# Altium integrated library LilyPad Simple v2.IntLib: 13 symbols
Pins are listed as number, name and electrical type; pins without a type are passive.

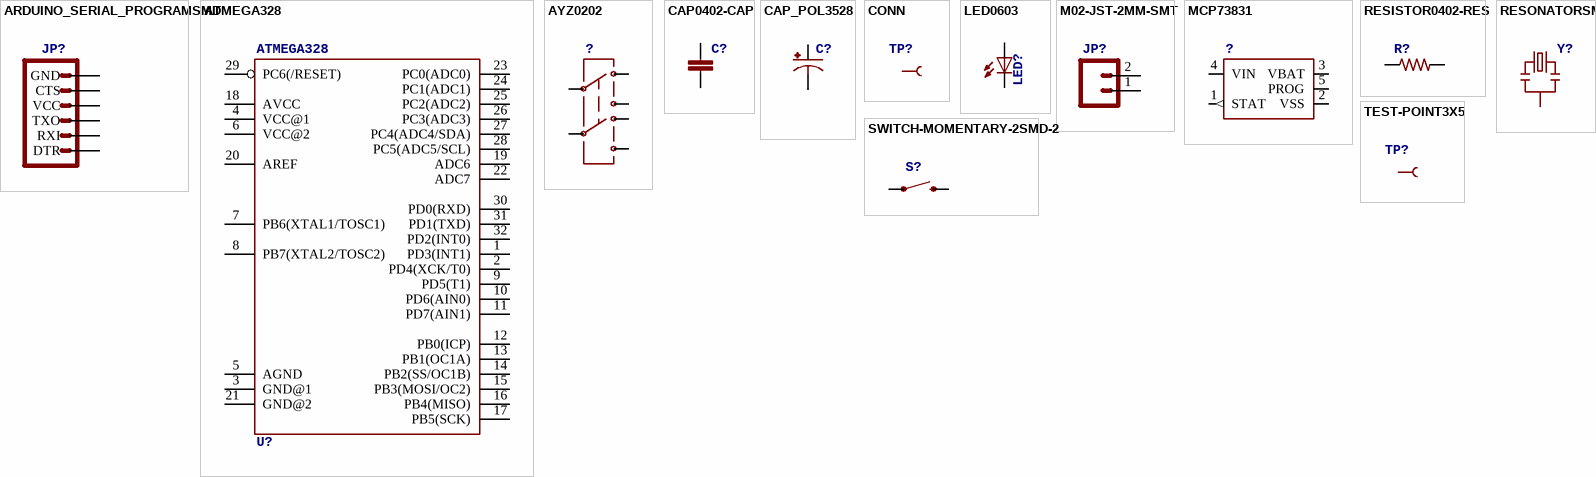
[diagram p0: symbols ARDUINO_SERIAL_PROGRAMSMD to TEST-POINT3X5]

## ARDUINO_SERIAL_PROGRAMSMD
designator JP?
footprint 1X06-SMD
pins: 1 DTR, 2 RXI, 3 TXO, 4 VCC, 5 CTS, 6 GND

## ATMEGA328
designator U?
footprint TQFP32-08
pins: 1 PD3(INT1), 2 PD4(XCK/T0), 3 GND@1, 4 VCC@1, 5 AGND, 6 VCC@2, 7 PB6(XTAL1/TOSC1), 8 PB7(XTAL2/TOSC2), 9 PD5(T1), 10 PD6(AIN0), 11 PD7(AIN1), 12 PB0(ICP), 13 PB1(OC1A), 14 PB2(SS/OC1B), 15 PB3(MOSI/OC2), 16 PB4(MISO), 17 PB5(SCK), 18 AVCC, 19 ADC6, 20 AREF, 21 GND@2, 22 ADC7, 23 PC0(ADC0), 24 PC1(ADC1), 25 PC2(ADC2), 26 PC3(ADC3), 27 PC4(ADC4/SDA), 28 PC5(ADC5/SCL), 29 PC6(/RESET), 30 PD0(RXD), 31 PD1(TXD), 32 PD2(INT0)

## AYZ0202
designator ?  (value not drawn)
footprint AYZ0202
pins: 1 3, 2, 3 1, 4 6, 5, 6 4

## CAP0402-CAP
designator C?  (value not drawn)
footprint 0402-CAP
pins: 1, 2

## CAP_POL3528
designator C?
footprint EIA3528
pins: A +, C -

## CONN
designator TP?
footprint PETAL-LONG-2
pins: 1

## LED0603
designator LED?
footprint LED-0603
pins: A, C

## M02-JST-2MM-SMT
designator JP?
footprint JST-2-SMD
pins: 1, 2

## MCP73831
designator ?  (value not drawn)
footprint SOT23-5
pins: 1 STAT (out), 2 VSS (power), 3 VBAT (power), 4 VIN (power), 5 PROG

## RESISTOR0402-RES
designator R?  (value not drawn)
footprint 0402-RES
pins: 1, 2

## RESONATORSMD
designator Y?  (value not drawn)
footprint RESONATOR-SMD
pins: 1, 2, 3

## SWITCH-MOMENTARY-2SMD-2
designator S?  (value not drawn)
footprint TACTILE_SWITCH_SMD-2
pins: 1 2, 2 1

## TEST-POINT3X5
designator TP?  (value not drawn)
footprint PAD.03X.05
pins: P$1 1